# EAGLE library part G17C0900132EU (library G17C0900132EU)
D Sub G17C Series Standard Density Right Angle PCB Mount Source: Datasheet <https://4donline.ihs.com/images/VipMasterIC/IC/AMPH/AMPHS14020/AMPHS14020-1.pdf?hkey=EF798316E3902B6ED9A73243A3159BB0>
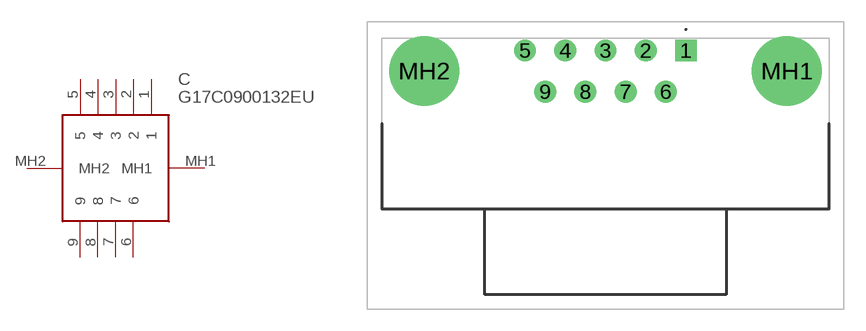
[diagram p0: symbol with the pads of G17C0900132EU; footprint G17C0900132EU]

Designator prefix C

## G17C0900132EU (Description: D Sub G17C Series Standard Density Right Angle PCB Mount; Height: 12.93mm; Manufacturer_Name: Amphenol; Manufacturer_Part_Number: G17C0900132EU; Mouser_Part_Number: 523-G17C0900132EU; Mouser_Price-Stock: https://www.mouser.co.uk/ProductDetail/Amphenol-Commercial-Products/G17C0900132EU?qs=JZ%252BiKJYxjZWsw7teGjwdZQ%3D%3D)  [G17C0900132EU]
1  1
2  2
3  3
4  4
5  5
6  6
7  7
8  8
9  9
MH1  MH1
MH2  MH2

## Footprint G17C0900132EU (pad centres in mm)
G17C0900132EU-1
drill 1 pad 1.5 square: 1 0,0
drill 1 pad 1.5: 2 -2.772,0; 3 -5.545,0; 4 -8.317,0; 5 -11.09,0; 6 -1.386,-2.84; 7 -4.159,-2.84; 8 -6.931,-2.84; 9 -9.704,-2.84
drill 3.2 pad 4.8: MH1 6.95,-1.42; MH2 -18.04,-1.42